# Altium schematic symbol library MBR0580S1-7.SchLib: 1 symbol
Pins are listed as number, name and electrical type; pins without a type are passive.

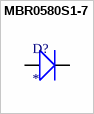
[diagram p0: symbol MBR0580S1-7]

## MBR0580S1-7
designator D?
No Description Available; Mfr_Name: Diodes Inc; Digi-Key_Part_Number_3: MBR0580S1-7DIDKR-ND; Digi-Key_Part_Number_2: MBR0580S1-7DICT-ND; Digi-Key_Part_Number_1: MBR0580S1-7DITR-ND; RefDes: RefDes; Type: Type
footprint MBR0580S1-7_DIO
footprint MBR0580S1-7_DIO-M
pins: 1, 2